# Altium footprint library Components - cap 10X20.PcbLib: 1 footprints
Each footprint in its own frame and in the unit in brackets; x right, y up, seen from the top. Pads: shape width x height; smd on the part's side, far side on the other; paste and mask are expansions set on the pad; w line width, h text height; cw(c..) or ccw(c..) is an arc to the next point about the centre after c.
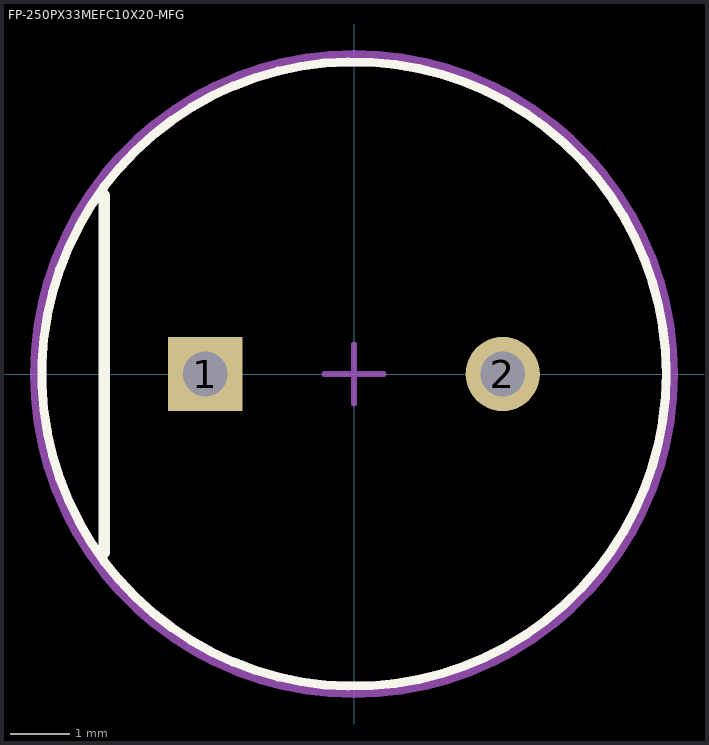
[diagram p0: the footprint, top view; thin cyan lines are the x and y axes]

## FP-250PX33MEFC10X20-MFG [mm]
pads (2):
  rect 1.25x1.25 hole 0.75 paste-2539.97 mask+0: 1(-2.5,0)
  round 1.25 hole 0.75 paste-2539.97 mask+0: 2(2.5,0)
Top Overlay:
  circle w0.15: c0,0 r5.25
  lines w0.2: -4.2,-3 -4.2,3
Top Assembly:
  text ".Designator" at 0,0.188 h1
Top 3D Body:
  circle w0.15: c0,0 r5.25
Top Courtyard:
  lines w0.2: -5.35,0 cw(c0,0) 5.35,0 cw(c0,0) -5.35,0
Top Component Center:
  lines w0.1: -0.5,0 0.5,0 ; 0,-0.5 0,0.5
3D body "Cap_Rubycon_250PX33MEFC10X20_eec.STEP": height 0.25, standoff 0, extent -5.35,-5.35 5.35,5.35